# Altium schematic symbol library SIM.SchLib: 1 symbol
Pins are listed as number, name and electrical type; pins without a type are passive.

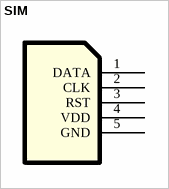
[diagram p0: symbol SIM]

## SIM
designator *  (value not drawn)
pins: 1 DATA, 2 CLK, 3 RST, 4 VDD, 5 GND